# Altium footprint library HyTechDevices.PCBLIB: 298 footprints (part 1 of 19)
Each footprint in its own frame and in the unit in brackets; x right, y up, seen from the top. Pads: shape width x height; smd on the part's side, far side on the other; paste and mask are expansions set on the pad; w line width, h text height; cw(c..) or ccw(c..) is an arc to the next point about the centre after c.
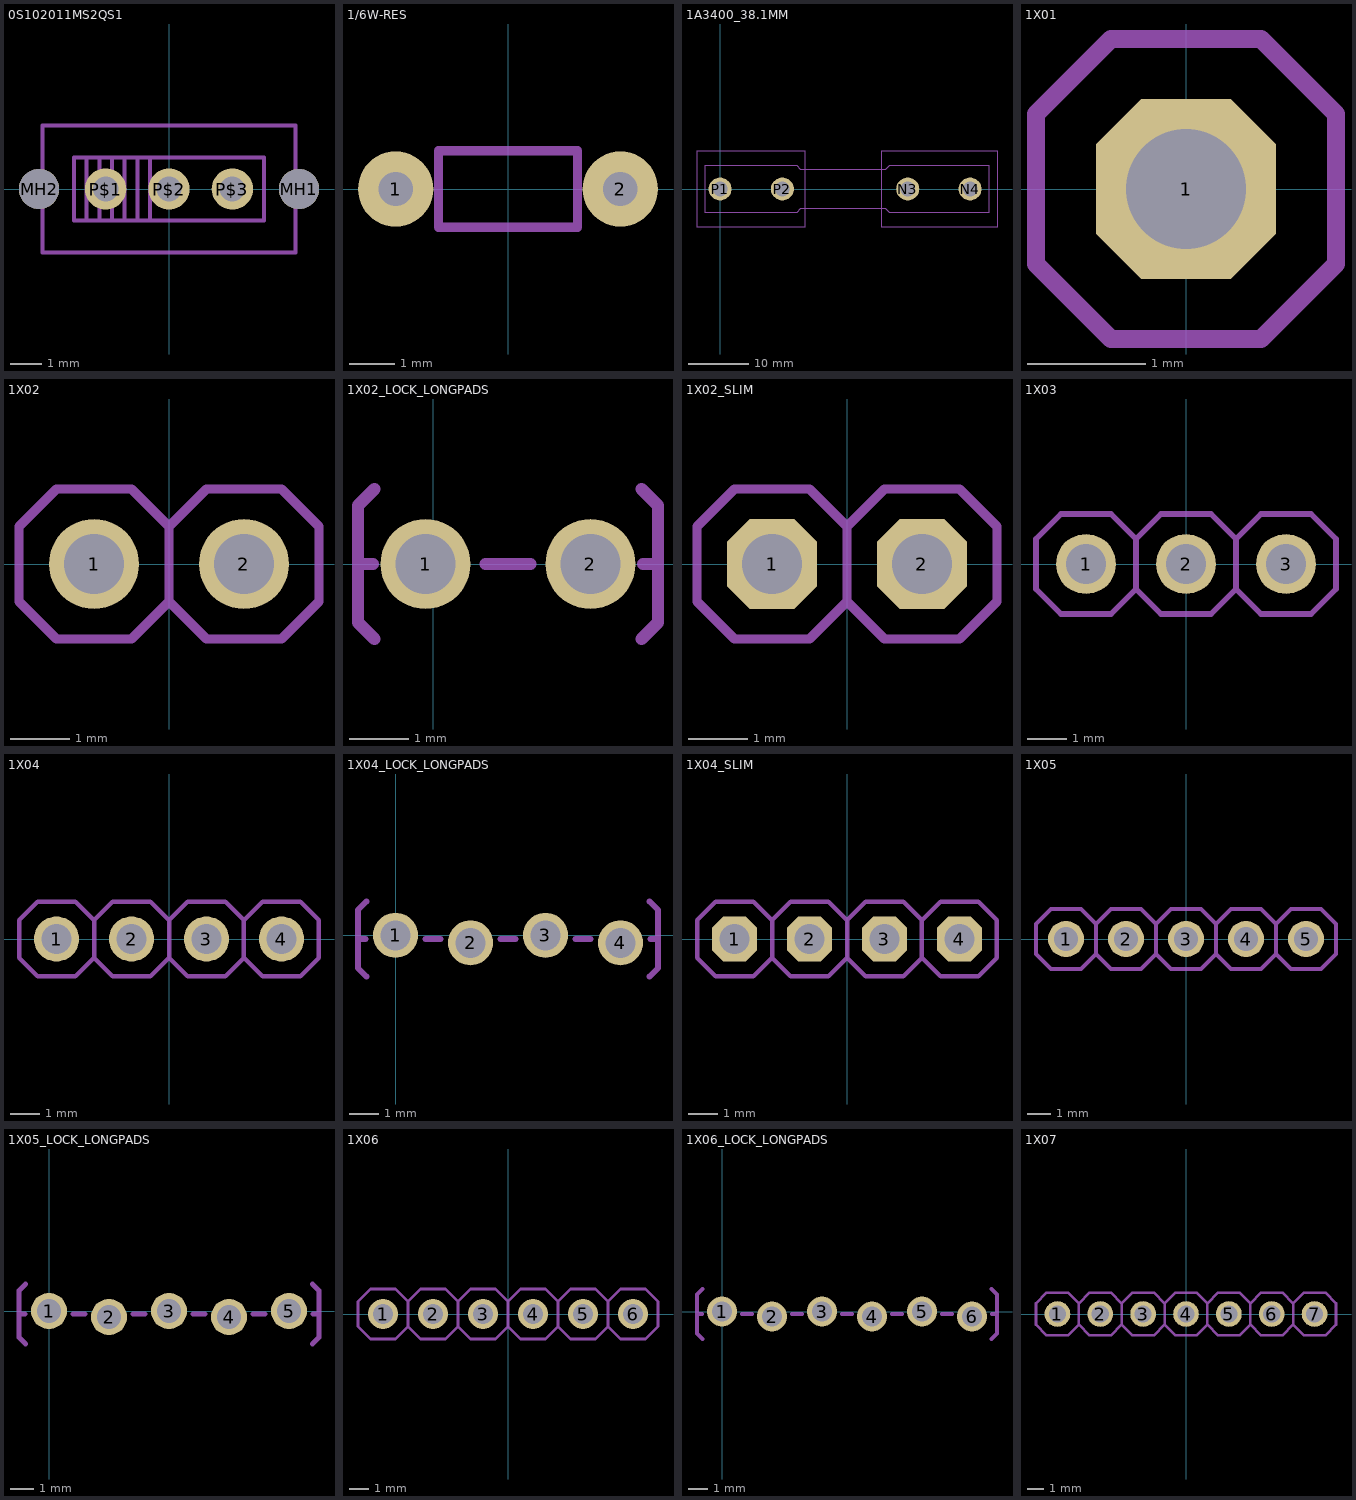
[diagram p0: the footprints below, top view; thin cyan lines are the x and y axes]

## 0S102011MS2QS1 [mil]
pads (5):
  round 50 hole 50 unplated: MH1(161.5,0) MH2(-161.5,0)
  round 51.5 hole 31.5: P$1(-78.74,0) P$2(0,0) P$3(78.74,0)
Mechanical 7:
  lines w5: -86.61,-39.37 -86.61,39.37 ; -102.36,-39.37 -118.11,-39.37 -118.11,39.37 -102.36,39.37 ; -102.36,-39.37 -70.87,-39.37 ; -102.36,-39.37 -102.36,39.37 ; -102.36,39.37 -70.87,39.37 ; -70.87,-39.37 -55.12,-39.37 ; -70.87,-39.37 -70.87,39.37 ; -70.87,39.37 -55.12,39.37 ; -55.12,-39.37 -55.12,39.37 ; -55.12,-39.37 -39.37,-39.37 ; -55.12,39.37 -39.37,39.37 ; -39.37,-39.37 -23.62,-39.37 ; -39.37,-39.37 -39.37,39.37 ; -39.37,39.37 -23.62,39.37 ; -23.62,-39.37 118.11,-39.37 118.11,39.37 -23.62,39.37 ; -23.62,-39.37 -23.62,39.37 ; -157.48,-78.74 157.48,-78.74 157.48,78.74 -157.48,78.74 -157.48,-78.74
  text "1" at -157.48,-78.74 h77.5
  text "2" at 118.11,-78.74 h77.5

## 1/6W-RES [mil]
pads (2):
  round 66 hole 30: 1(-98.43,0) 2(98.43,0)
Mechanical 7:
  lines w8: -61.02,-33.46 -61.02,33.46 61.02,33.46 61.02,-33.46 -61.02,-33.46

## 1A3400_38.1MM [mil]
pads (4):
  round 150 hole 95: N3(1220,0) N4(1625,0) P1(0,0) P2(405,0)
Mechanical 7:
  lines w5: -150,-250 550,-250 550,250 -150,250 -150,-250 ; -100,-150 -100,150 500,150 525,125 1075,125 1100,150 1750,150 1750,-150 1100,-150 1075,-125 525,-125 500,-150 -100,-150 ; 1050,-250 1800,-250 1800,250 1050,250 1050,-250
  text "MIDGET FUSE" at 800,0 h62

## 1X01 [mil]
pads (1):
  oct 60x60 / inner round 55.43 / far side oct 60x60 hole 40: 1(0,0)
Mechanical 3:
  region: -10,-10 -10,10 10,10 10,-10
Mechanical 7:
  lines w6: -50,-25 -50,25 -25,50 25,50 50,25 50,-25 25,-50 -25,-50 -50,-25

## 1X02 [mil]
pads (2):
  round 60 hole 40: 1(-50,0) 2(50,0)
Mechanical 3:
  region: -60,-10 -60,10 -40,10 -40,-10
  region: 40,-10 40,10 60,10 60,-10
Mechanical 7:
  lines w6: 0,-25 0,25 ; 0,-25 -25,-50 -75,-50 -100,-25 -100,25 -75,50 -25,50 0,25 ; 0,-25 25,-50 75,-50 100,-25 100,25 75,50 25,50 0,25

## 1X02_LOCK_LONGPADS [mil]
pads (2):
  round 60 hole 40: 1(-5,0) 2(105,0)
Mechanical 3:
  region: -11.5,-11.5 -11.5,11.5 11.5,11.5 11.5,-11.5
  region: 88.5,-11.5 88.5,11.5 111.5,11.5 111.5,-11.5
Mechanical 7:
  lines w8: -40,0 -50,0 ; -39,-50 -50,-39 -50,0 ; -39,50 -50,39 -50,0 ; 35,0 65,0 ; 139,-50 150,-39 150,0 ; 139,50 150,39 150,0 ; 140,0 150,0

## 1X02_SLIM [mil]
pads (2):
  oct 60x60 / inner round 55.43 / far side oct 60x60 hole 40: 1(-50,0) 2(50,0)
Mechanical 3:
  region: -60,-10 -60,10 -40,10 -40,-10
  region: 40,-10 40,10 60,10 60,-10
Mechanical 7:
  lines w6: 0,-25 0,25 ; 0,-25 -25,-50 -75,-50 -100,-25 -100,25 -75,50 -25,50 0,25 ; 0,-25 25,-50 75,-50 100,-25 100,25 75,50 25,50 0,25

## 1X03 [mil]
pads (3):
  round 60 hole 40: 1(-100,0) 2(0,0) 3(100,0)
Mechanical 3:
  region: -10,-10 -10,10 10,10 10,-10
  region: -110,-10 -110,10 -90,10 -90,-10
  region: 90,-10 90,10 110,10 110,-10
Mechanical 7:
  lines w6: -50,-25 -50,25 ; -50,-25 -75,-50 -125,-50 -150,-25 -150,25 -125,50 -75,50 -50,25 ; -50,-25 -25,-50 25,-50 50,-25 ; -50,25 -25,50 25,50 50,25 ; 50,-25 50,25 ; 50,-25 75,-50 125,-50 150,-25 150,25 125,50 75,50 50,25

## 1X04 [mil]
pads (4):
  round 60 hole 40: 1(-150,0) 2(-50,0) 3(50,0) 4(150,0)
Mechanical 3:
  region: 40,-10 40,10 60,10 60,-10
  region: -60,-10 -60,10 -40,10 -40,-10
  region: -160,-10 -160,10 -140,10 -140,-10
  region: 140,-10 140,10 160,10 160,-10
Mechanical 7:
  lines w6: -100,-25 -100,25 ; -100,-25 -125,-50 -175,-50 -200,-25 -200,25 -175,50 -125,50 -100,25 ; -100,-25 -75,-50 -25,-50 0,-25 ; -100,25 -75,50 -25,50 0,25 ; 0,-25 25,-50 75,-50 100,-25 ; 0,-25 0,25 ; 0,25 25,50 75,50 100,25 ; 100,-25 100,25 ; 100,-25 125,-50 175,-50 200,-25 200,25 175,50 125,50 100,25

## 1X04_LOCK_LONGPADS [mil]
pads (4):
  round 60 hole 40: 1(0,0) 2(100,-10) 3(200,0) 4(300,-10)
Mechanical 3:
  region: -11.5,-16.5 -11.5,6.5 11.5,6.5 11.5,-16.5
  region: 88.5,-16.5 88.5,6.5 111.5,6.5 111.5,-16.5
  region: 188.5,-16.5 188.5,6.5 211.5,6.5 211.5,-16.5
  region: 311.5,-16.5 288.5,-16.5 288.5,6.5 311.5,6.5
Mechanical 7:
  lines w8: -40,-5 -50,-5 ; -39,-55 -50,-44 -50,-5 ; -39,45 -50,34 -50,-5 ; 40,-5 60,-5 ; 140,-5 160,-5 ; 240,-5 260,-5 ; 339,-55 350,-44 350,-5 ; 339,45 350,34 350,-5 ; 340,-5 350,-5

## 1X04_SLIM [mil]
pads (4):
  oct 60x60 / inner round 55.43 / far side oct 60x60 hole 40: 1(-150,0) 2(-50,0) 3(50,0) 4(150,0)
Mechanical 3:
  region: 40,-10 40,10 60,10 60,-10
  region: -60,-10 -60,10 -40,10 -40,-10
  region: -160,-10 -160,10 -140,10 -140,-10
  region: 140,-10 140,10 160,10 160,-10
Mechanical 7:
  lines w6: -100,-25 -100,25 ; -100,-25 -125,-50 -175,-50 -200,-25 -200,25 -175,50 -125,50 -100,25 ; -100,-25 -75,-50 -25,-50 0,-25 ; -100,25 -75,50 -25,50 0,25 ; 0,-25 25,-50 75,-50 100,-25 ; 0,-25 0,25 ; 0,25 25,50 75,50 100,25 ; 100,-25 100,25 ; 100,-25 125,-50 175,-50 200,-25 200,25 175,50 125,50 100,25

## 1X05 [mil]
pads (5):
  round 60 hole 40: 1(-200,0) 2(-100,0) 3(0,0) 4(100,0) 5(200,0)
Mechanical 3:
  region: 90,-10 90,10 110,10 110,-10
  region: -10,-10 -10,10 10,10 10,-10
  region: -110,-10 -110,10 -90,10 -90,-10
  region: -210,-10 -210,10 -190,10 -190,-10
  region: 190,-10 190,10 210,10 210,-10
Mechanical 7:
  lines w6: -150,-25 -150,25 ; -150,-25 -175,-50 -225,-50 -250,-25 -250,25 -225,50 -175,50 -150,25 ; -150,-25 -125,-50 -75,-50 -50,-25 ; -150,25 -125,50 -75,50 -50,25 ; -50,-25 -25,-50 25,-50 50,-25 ; -50,-25 -50,25 ; -50,25 -25,50 25,50 50,25 ; 50,-25 50,25 ; 50,-25 75,-50 125,-50 150,-25 ; 50,25 75,50 125,50 150,25 ; 150,-25 150,25 ; 150,-25 175,-50 225,-50 250,-25 250,25 225,50 175,50 150,25

## 1X05_LOCK_LONGPADS [mil]
pads (5):
  round 60 hole 40: 1(0,0) 2(100,-10) 3(200,0) 4(300,-10) 5(400,0)
Mechanical 3:
  region: -11.5,-16.5 -11.5,6.5 11.5,6.5 11.5,-16.5
  region: 88.5,-16.5 88.5,6.5 111.5,6.5 111.5,-16.5
  region: 188.5,-16.5 188.5,6.5 211.5,6.5 211.5,-16.5
  region: 311.5,-16.5 288.5,-16.5 288.5,6.5 311.5,6.5
  region: 388.5,-16.5 388.5,6.5 411.5,6.5 411.5,-16.5
Mechanical 7:
  lines w8: -40,-5 -50,-5 ; -39,-55 -50,-44 -50,-5 ; -39,45 -50,34 -50,-5 ; 40,-5 60,-5 ; 140,-5 160,-5 ; 240,-5 260,-5 ; 340,-5 360,-5 ; 439,-55 450,-44 450,-5 ; 439,45 450,34 450,-5 ; 440,-5 450,-5

## 1X06 [mil]
pads (6):
  round 60 hole 40: 1(-250,0) 2(-150,0) 3(-50,0) 4(50,0) 5(150,0) 6(250,0)
Mechanical 3:
  region: 140,-10 140,10 160,10 160,-10
  region: 40,-10 40,10 60,10 60,-10
  region: -60,-10 -60,10 -40,10 -40,-10
  region: -160,-10 -160,10 -140,10 -140,-10
  region: -260,-10 -260,10 -240,10 -240,-10
  region: 240,-10 240,10 260,10 260,-10
Mechanical 7:
  lines w6: -200,-25 -200,25 ; -200,-25 -225,-50 -275,-50 -300,-25 -300,25 -275,50 -225,50 -200,25 ; -200,-25 -175,-50 -125,-50 -100,-25 ; -200,25 -175,50 -125,50 -100,25 ; -100,-25 -75,-50 -25,-50 0,-25 ; -100,-25 -100,25 ; -100,25 -75,50 -25,50 0,25 ; 0,-25 0,25 ; 0,-25 25,-50 75,-50 100,-25 ; 0,25 25,50 75,50 100,25 ; 100,-25 100,25 ; 100,-25 125,-50 175,-50 200,-25 ; 100,25 125,50 175,50 200,25 ; 200,-25 200,25 ; 200,-25 225,-50 275,-50 300,-25 300,25 275,50 225,50 200,25

## 1X06_LOCK_LONGPADS [mil]
pads (6):
  round 60 hole 40: 1(0,0) 2(100,-10) 3(200,0) 4(300,-10) 5(400,0) 6(500,-10)
Mechanical 3:
  region: -11.5,-16.5 -11.5,6.5 11.5,6.5 11.5,-16.5
  region: 88.5,-16.5 88.5,6.5 111.5,6.5 111.5,-16.5
  region: 188.5,-16.5 188.5,6.5 211.5,6.5 211.5,-16.5
  region: 311.5,-16.5 288.5,-16.5 288.5,6.5 311.5,6.5
  region: 388.5,-16.5 388.5,6.5 411.5,6.5 411.5,-16.5
  region: 488.5,-16.5 488.5,6.5 511.5,6.5 511.5,-16.5
Mechanical 7:
  lines w8: -40,-5 -50,-5 ; -39,-55 -50,-44 -50,-5 ; -39,45 -50,34 -50,-5 ; 40,-5 60,-5 ; 140,-5 160,-5 ; 240,-5 260,-5 ; 340,-5 360,-5 ; 440,-5 460,-5 ; 539,-55 550,-44 550,-5 ; 539,45 550,34 550,-5 ; 540,-5 550,-5

## 1X07 [mil]
pads (7):
  round 60 hole 40: 1(-300,0) 2(-200,0) 3(-100,0) 4(0,0) 5(100,0) 6(200,0) 7(300,0)
Mechanical 3:
  region: 190,-10 190,10 210,10 210,-10
  region: 90,-10 90,10 110,10 110,-10
  region: -10,-10 -10,10 10,10 10,-10
  region: -110,-10 -110,10 -90,10 -90,-10
  region: -210,-10 -210,10 -190,10 -190,-10
  region: -310,-10 -310,10 -290,10 -290,-10
  region: 290,-10 290,10 310,10 310,-10
Mechanical 7:
  lines w6: -250,-25 -250,25 ; -250,-25 -275,-50 -325,-50 -350,-25 -350,25 -325,50 -275,50 -250,25 ; -250,-25 -225,-50 -175,-50 -150,-25 ; -250,25 -225,50 -175,50 -150,25 ; -150,-25 -125,-50 -75,-50 -50,-25 ; -150,-25 -150,25 ; -150,25 -125,50 -75,50 -50,25 ; -50,-25 -50,25 ; -50,-25 -25,-50 25,-50 50,-25 ; -50,25 -25,50 25,50 50,25 ; 50,-25 50,25 ; 50,-25 75,-50 125,-50 150,-25 ; 50,25 75,50 125,50 150,25 ; 150,-25 175,-50 225,-50 250,-25 ; 150,-25 150,25 ; 150,25 175,50 225,50 250,25 ; 250,-25 250,25 ; 250,-25 275,-50 325,-50 350,-25 350,25 325,50 275,50 250,25